# Altium schematic symbol library PZ7010S_7020S.SchLib: 2 symbols
Pins are listed as number, name and electrical type; pins without a type are passive.

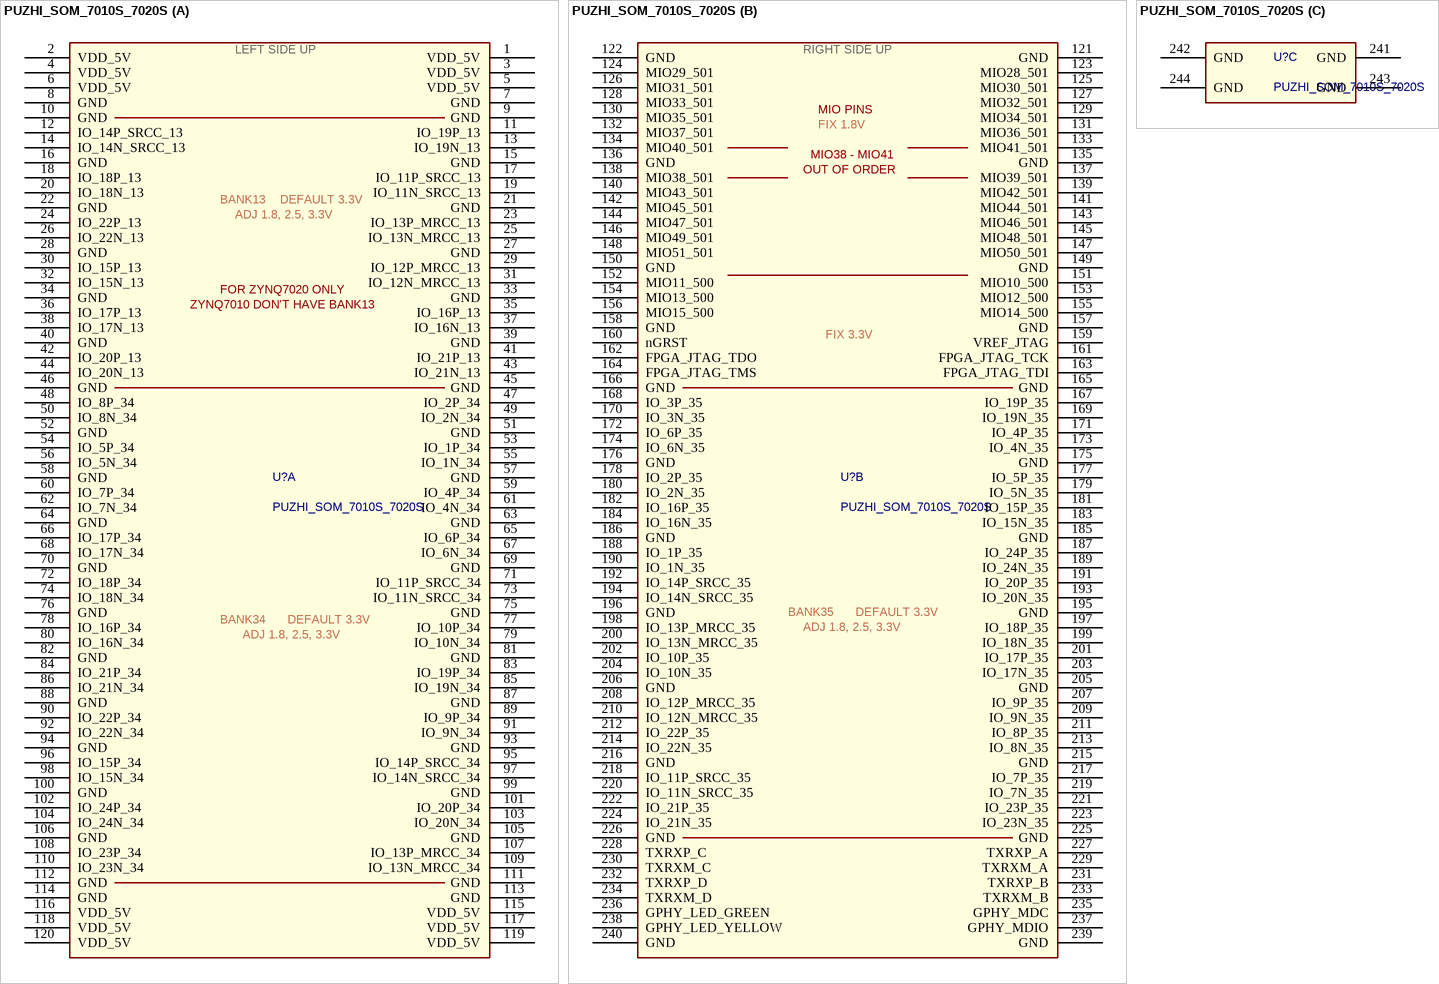
[diagram p0: symbol PUZHI_SOM_7010S_7020S]

## PUZHI_SOM_7010S_7020S
designator U?
footprint PUZHI_SOM_7010S_7020S
part A pins: 1 VDD_5V, 2 VDD_5V, 3 VDD_5V, 4 VDD_5V, 5 VDD_5V, 6 VDD_5V, 7 GND (power), 8 GND (power), 9 GND (power), 10 GND (power), 11 IO_19P_13, 12 IO_14P_SRCC_13, 13 IO_19N_13, 14 IO_14N_SRCC_13, 15 GND (power), 16 GND (power), 17 IO_11P_SRCC_13, 18 IO_18P_13, 19 IO_11N_SRCC_13, 20 IO_18N_13, 21 GND (power), 22 GND (power), 23 IO_13P_MRCC_13, 24 IO_22P_13, 25 IO_13N_MRCC_13, 26 IO_22N_13, 27 GND (power), 28 GND (power), 29 IO_12P_MRCC_13, 30 IO_15P_13, 31 IO_12N_MRCC_13, 32 IO_15N_13, 33 GND (power), 34 GND (power), 35 IO_16P_13, 36 IO_17P_13, 37 IO_16N_13, 38 IO_17N_13, 39 GND (power), 40 GND (power), 41 IO_21P_13, 42 IO_20P_13, 43 IO_21N_13, 44 IO_20N_13, 45 GND (power), 46 GND (power), 47 IO_2P_34, 48 IO_8P_34, 49 IO_2N_34, 50 IO_8N_34, 51 GND (power), 52 GND (power), 53 IO_1P_34, 54 IO_5P_34, 55 IO_1N_34, 56 IO_5N_34, 57 GND (power), 58 GND (power), 59 IO_4P_34, 60 IO_7P_34, 61 IO_4N_34, 62 IO_7N_34, 63 GND (power), 64 GND (power), 65 IO_6P_34, 66 IO_17P_34, 67 IO_6N_34, 68 IO_17N_34, 69 GND (power), 70 GND (power), 71 IO_11P_SRCC_34, 72 IO_18P_34, 73 IO_11N_SRCC_34, 74 IO_18N_34, 75 GND (power), 76 GND (power), 77 IO_10P_34, 78 IO_16P_34, 79 IO_10N_34, 80 IO_16N_34, 81 GND (power), 82 GND (power), 83 IO_19P_34, 84 IO_21P_34, 85 IO_19N_34, 86 IO_21N_34, 87 GND (power), 88 GND (power), 89 IO_9P_34, 90 IO_22P_34, 91 IO_9N_34, 92 IO_22N_34, 93 GND (power), 94 GND (power), 95 IO_14P_SRCC_34, 96 IO_15P_34, 97 IO_14N_SRCC_34, 98 IO_15N_34, 99 GND (power), 100 GND (power), 101 IO_20P_34, 102 IO_24P_34, 103 IO_20N_34, 104 IO_24N_34, 105 GND (power), 106 GND (power), 107 IO_13P_MRCC_34, 108 IO_23P_34, 109 IO_13N_MRCC_34, 110 IO_23N_34, 111 GND (power), 112 GND (power), 113 GND (power), 114 GND (power), 115 VDD_5V, 116 VDD_5V, 117 VDD_5V, 118 VDD_5V, 119 VDD_5V, 120 VDD_5V
part B pins: 121 GND (power), 122 GND (power), 123 MIO28_501, 124 MIO29_501, 125 MIO30_501, 126 MIO31_501, 127 MIO32_501, 128 MIO33_501, 129 MIO34_501, 130 MIO35_501, 131 MIO36_501, 132 MIO37_501, 133 MIO41_501, 134 MIO40_501, 135 GND (power), 136 GND (power), 137 MIO39_501, 138 MIO38_501, 139 MIO42_501, 140 MIO43_501, 141 MIO44_501, 142 MIO45_501, 143 MIO46_501, 144 MIO47_501, 145 MIO48_501, 146 MIO49_501, 147 MIO50_501, 148 MIO51_501, 149 GND (power), 150 GND (power), 151 MIO10_500, 152 MIO11_500, 153 MIO12_500, 154 MIO13_500, 155 MIO14_500, 156 MIO15_500, 157 GND (power), 158 GND (power), 159 VREF_JTAG, 160 nGRST, 161 FPGA_JTAG_TCK, 162 FPGA_JTAG_TDO, 163 FPGA_JTAG_TDI, 164 FPGA_JTAG_TMS, 165 GND (power), 166 GND (power), 167 IO_19P_35, 168 IO_3P_35, 169 IO_19N_35, 170 IO_3N_35, 171 IO_4P_35, 172 IO_6P_35, 173 IO_4N_35, 174 IO_6N_35, 175 GND (power), 176 GND (power), 177 IO_5P_35, 178 IO_2P_35, 179 IO_5N_35, 180 IO_2N_35, 181 IO_15P_35, 182 IO_16P_35, 183 IO_15N_35, 184 IO_16N_35, 185 GND (power), 186 GND (power), 187 IO_24P_35, 188 IO_1P_35, 189 IO_24N_35, 190 IO_1N_35, 191 IO_20P_35, 192 IO_14P_SRCC_35, 193 IO_20N_35, 194 IO_14N_SRCC_35, 195 GND (power), 196 GND (power), 197 IO_18P_35, 198 IO_13P_MRCC_35, 199 IO_18N_35, 200 IO_13N_MRCC_35, 201 IO_17P_35, 202 IO_10P_35, 203 IO_17N_35, 204 IO_10N_35, 205 GND (power), 206 GND (power), 207 IO_9P_35, 208 IO_12P_MRCC_35, 209 IO_9N_35, 210 IO_12N_MRCC_35, 211 IO_8P_35, 212 IO_22P_35, 213 IO_8N_35, 214 IO_22N_35, 215 GND (power), 216 GND (power), 217 IO_7P_35, 218 IO_11P_SRCC_35, 219 IO_7N_35, 220 IO_11N_SRCC_35, 221 IO_23P_35, 222 IO_21P_35, 223 IO_23N_35, 224 IO_21N_35, 225 GND (power), 226 GND (power), 227 TXRXP_A, 228 TXRXP_C, 229 TXRXM_A, 230 TXRXM_C, 231 TXRXP_B, 232 TXRXP_D, 233 TXRXM_B, 234 TXRXM_D, 235 GPHY_MDC, 236 GPHY_LED_GREEN, 237 GPHY_MDIO, 238 GPHY_LED_YELLOW, 239 GND (power), 240 GND (power)
part C pins: 241 GND (power), 242 GND (power), 243 GND (power), 244 GND (power)
part A text: LEFT SIDE UP; BANK13; DEFAULT 3.3V; ADJ 1.8, 2.5, 3.3V; FOR ZYNQ7020 ONLY; ZYNQ7010 DON'T HAVE BANK13; BANK34
part B text: RIGHT SIDE UP; MIO PINS; FIX 1.8V; MIO38 - MIO41; OUT OF ORDER; FIX 3.3V; BANK35; DEFAULT 3.3V; ADJ 1.8, 2.5, 3.3V

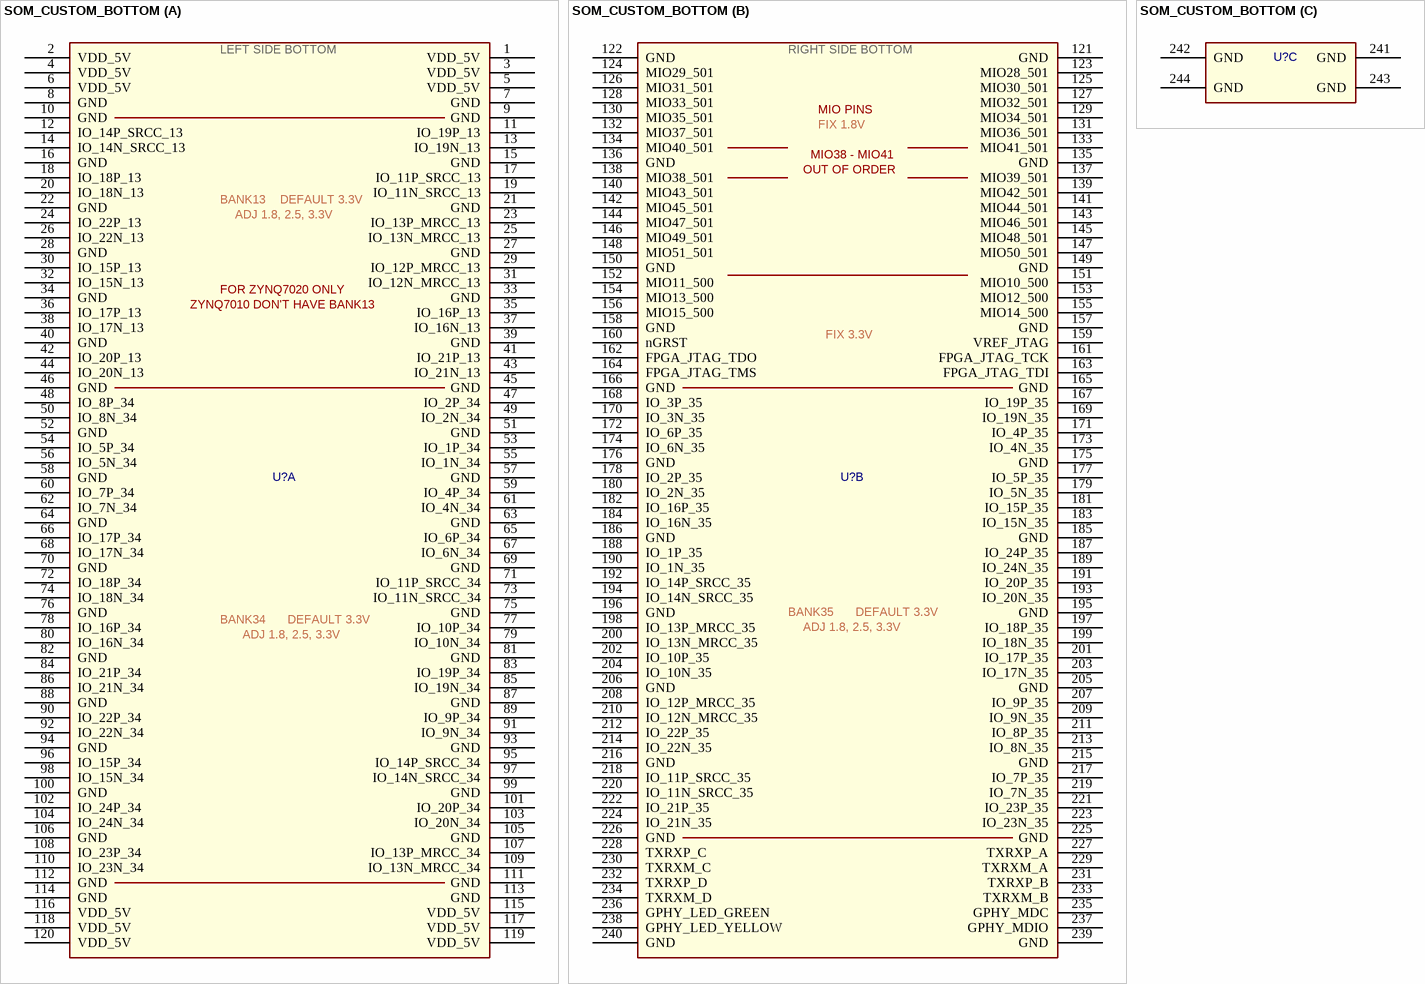
[diagram p1: symbol SOM_CUSTOM_BOTTOM]

## SOM_CUSTOM_BOTTOM
designator U?  (value not drawn)
footprint SOM_CUSTOM_BOTTOM
part A pins: 1 VDD_5V, 2 VDD_5V, 3 VDD_5V, 4 VDD_5V, 5 VDD_5V, 6 VDD_5V, 7 GND (power), 8 GND (power), 9 GND (power), 10 GND (power), 11 IO_19P_13, 12 IO_14P_SRCC_13, 13 IO_19N_13, 14 IO_14N_SRCC_13, 15 GND (power), 16 GND (power), 17 IO_11P_SRCC_13, 18 IO_18P_13, 19 IO_11N_SRCC_13, 20 IO_18N_13, 21 GND (power), 22 GND (power), 23 IO_13P_MRCC_13, 24 IO_22P_13, 25 IO_13N_MRCC_13, 26 IO_22N_13, 27 GND (power), 28 GND (power), 29 IO_12P_MRCC_13, 30 IO_15P_13, 31 IO_12N_MRCC_13, 32 IO_15N_13, 33 GND (power), 34 GND (power), 35 IO_16P_13, 36 IO_17P_13, 37 IO_16N_13, 38 IO_17N_13, 39 GND (power), 40 GND (power), 41 IO_21P_13, 42 IO_20P_13, 43 IO_21N_13, 44 IO_20N_13, 45 GND (power), 46 GND (power), 47 IO_2P_34, 48 IO_8P_34, 49 IO_2N_34, 50 IO_8N_34, 51 GND (power), 52 GND (power), 53 IO_1P_34, 54 IO_5P_34, 55 IO_1N_34, 56 IO_5N_34, 57 GND (power), 58 GND (power), 59 IO_4P_34, 60 IO_7P_34, 61 IO_4N_34, 62 IO_7N_34, 63 GND (power), 64 GND (power), 65 IO_6P_34, 66 IO_17P_34, 67 IO_6N_34, 68 IO_17N_34, 69 GND (power), 70 GND (power), 71 IO_11P_SRCC_34, 72 IO_18P_34, 73 IO_11N_SRCC_34, 74 IO_18N_34, 75 GND (power), 76 GND (power), 77 IO_10P_34, 78 IO_16P_34, 79 IO_10N_34, 80 IO_16N_34, 81 GND (power), 82 GND (power), 83 IO_19P_34, 84 IO_21P_34, 85 IO_19N_34, 86 IO_21N_34, 87 GND (power), 88 GND (power), 89 IO_9P_34, 90 IO_22P_34, 91 IO_9N_34, 92 IO_22N_34, 93 GND (power), 94 GND (power), 95 IO_14P_SRCC_34, 96 IO_15P_34, 97 IO_14N_SRCC_34, 98 IO_15N_34, 99 GND (power), 100 GND (power), 101 IO_20P_34, 102 IO_24P_34, 103 IO_20N_34, 104 IO_24N_34, 105 GND (power), 106 GND (power), 107 IO_13P_MRCC_34, 108 IO_23P_34, 109 IO_13N_MRCC_34, 110 IO_23N_34, 111 GND (power), 112 GND (power), 113 GND (power), 114 GND (power), 115 VDD_5V, 116 VDD_5V, 117 VDD_5V, 118 VDD_5V, 119 VDD_5V, 120 VDD_5V
part B pins: 121 GND (power), 122 GND (power), 123 MIO28_501, 124 MIO29_501, 125 MIO30_501, 126 MIO31_501, 127 MIO32_501, 128 MIO33_501, 129 MIO34_501, 130 MIO35_501, 131 MIO36_501, 132 MIO37_501, 133 MIO41_501, 134 MIO40_501, 135 GND (power), 136 GND (power), 137 MIO39_501, 138 MIO38_501, 139 MIO42_501, 140 MIO43_501, 141 MIO44_501, 142 MIO45_501, 143 MIO46_501, 144 MIO47_501, 145 MIO48_501, 146 MIO49_501, 147 MIO50_501, 148 MIO51_501, 149 GND (power), 150 GND (power), 151 MIO10_500, 152 MIO11_500, 153 MIO12_500, 154 MIO13_500, 155 MIO14_500, 156 MIO15_500, 157 GND (power), 158 GND (power), 159 VREF_JTAG, 160 nGRST, 161 FPGA_JTAG_TCK, 162 FPGA_JTAG_TDO, 163 FPGA_JTAG_TDI, 164 FPGA_JTAG_TMS, 165 GND (power), 166 GND (power), 167 IO_19P_35, 168 IO_3P_35, 169 IO_19N_35, 170 IO_3N_35, 171 IO_4P_35, 172 IO_6P_35, 173 IO_4N_35, 174 IO_6N_35, 175 GND (power), 176 GND (power), 177 IO_5P_35, 178 IO_2P_35, 179 IO_5N_35, 180 IO_2N_35, 181 IO_15P_35, 182 IO_16P_35, 183 IO_15N_35, 184 IO_16N_35, 185 GND (power), 186 GND (power), 187 IO_24P_35, 188 IO_1P_35, 189 IO_24N_35, 190 IO_1N_35, 191 IO_20P_35, 192 IO_14P_SRCC_35, 193 IO_20N_35, 194 IO_14N_SRCC_35, 195 GND (power), 196 GND (power), 197 IO_18P_35, 198 IO_13P_MRCC_35, 199 IO_18N_35, 200 IO_13N_MRCC_35, 201 IO_17P_35, 202 IO_10P_35, 203 IO_17N_35, 204 IO_10N_35, 205 GND (power), 206 GND (power), 207 IO_9P_35, 208 IO_12P_MRCC_35, 209 IO_9N_35, 210 IO_12N_MRCC_35, 211 IO_8P_35, 212 IO_22P_35, 213 IO_8N_35, 214 IO_22N_35, 215 GND (power), 216 GND (power), 217 IO_7P_35, 218 IO_11P_SRCC_35, 219 IO_7N_35, 220 IO_11N_SRCC_35, 221 IO_23P_35, 222 IO_21P_35, 223 IO_23N_35, 224 IO_21N_35, 225 GND (power), 226 GND (power), 227 TXRXP_A, 228 TXRXP_C, 229 TXRXM_A, 230 TXRXM_C, 231 TXRXP_B, 232 TXRXP_D, 233 TXRXM_B, 234 TXRXM_D, 235 GPHY_MDC, 236 GPHY_LED_GREEN, 237 GPHY_MDIO, 238 GPHY_LED_YELLOW, 239 GND (power), 240 GND (power)
part C pins: 241 GND (power), 242 GND (power), 243 GND (power), 244 GND (power)
part A text: LEFT SIDE BOTTOM; BANK13; DEFAULT 3.3V; ADJ 1.8, 2.5, 3.3V; FOR ZYNQ7020 ONLY; ZYNQ7010 DON'T HAVE BANK13; BANK34
part B text: RIGHT SIDE BOTTOM; MIO PINS; FIX 1.8V; MIO38 - MIO41; OUT OF ORDER; FIX 3.3V; BANK35; DEFAULT 3.3V; ADJ 1.8, 2.5, 3.3V